# EAGLE library part CONN_FFC_1X39_SH (library GPLIB_CONN)
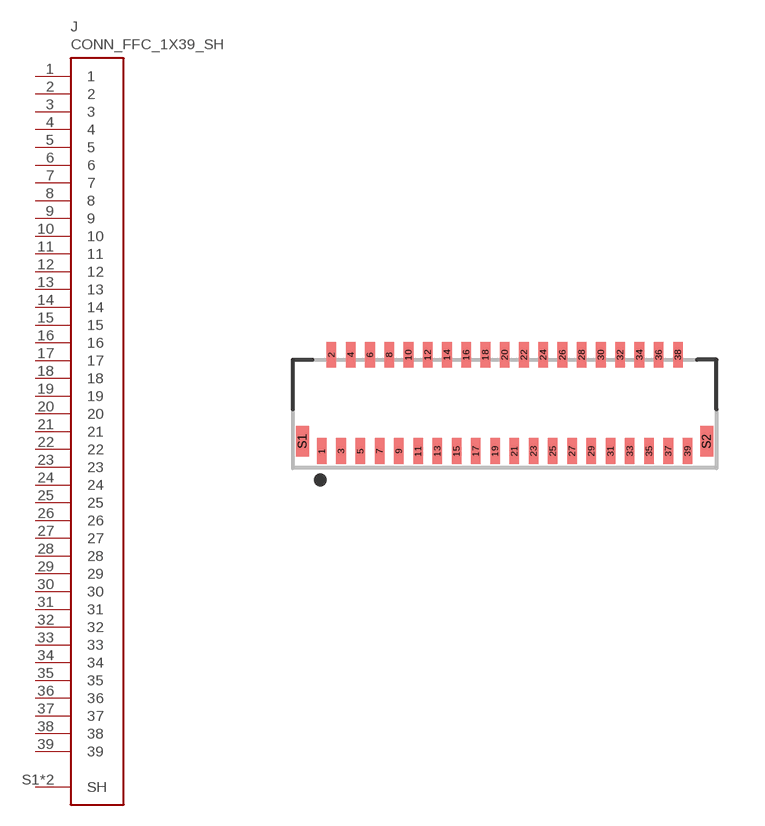
[diagram p23: symbol with the pads of CONN_FFC_1X39_0.3MM_SM_RA_FH26W-39S-0.3SHW(60); footprint CONN_FFC_1X39_0.3MM_SM_RA_FH26W-39S-0.3SHW(60)]

Designator prefix J

## CONN_FFC_1X39_SH_0.3MM_SM_RA_FH26W-39S-0.3SHW(60)  [CONN_FFC_1X39_0.3MM_SM_RA_FH26W-39S-0.3SHW(60)]
1  1  pas
2  2  pas
3  3  pas
4  4  pas
5  5  pas
6  6  pas
7  7  pas
8  8  pas
9  9  pas
10  10  pas
11  11  pas
12  12  pas
13  13  pas
14  14  pas
15  15  pas
16  16  pas
17  17  pas
18  18  pas
19  19  pas
20  20  pas
21  21  pas
22  22  pas
23  23  pas
24  24  pas
25  25  pas
26  26  pas
27  27  pas
28  28  pas
29  29  pas
30  30  pas
31  31  pas
32  32  pas
33  33  pas
34  34  pas
35  35  pas
36  36  pas
37  37  pas
38  38  pas
39  39  pas
S1  SH  pas
S2  SH  pas

## Footprint CONN_FFC_1X39_0.3MM_SM_RA_FH26W-39S-0.3SHW(60) (pad centres in mm)
smd 0.3 x 0.8: 1 -5.7,-1.5; 2 -5.4,1.5; 3 -5.1,-1.5; 4 -4.8,1.5; 5 -4.5,-1.5; 6 -4.2,1.5; 7 -3.9,-1.5; 8 -3.6,1.5; 9 -3.3,-1.5; 10 -3,1.5; 11 -2.7,-1.5; 12 -2.4,1.5; 13 -2.1,-1.5; 14 -1.8,1.5; 15 -1.5,-1.5; 16 -1.2,1.5; 17 -0.9,-1.5; 18 -0.6,1.5; 19 -0.3,-1.5; 20 0,1.5; 21 0.3,-1.5; 22 0.6,1.5; 23 0.9,-1.5; 24 1.2,1.5; 25 1.5,-1.5; 26 1.8,1.5; 27 2.1,-1.5; 28 2.4,1.5; 29 2.7,-1.5; 30 3,1.5; 31 3.3,-1.5; 32 3.6,1.5; 33 3.9,-1.5; 34 4.2,1.5; 35 4.5,-1.5; 36 4.8,1.5; 37 5.1,-1.5; 38 5.4,1.5; 39 5.7,-1.5
smd 0.4 x 0.95: S1 -6.3,-1.196; S2 6.3,-1.196